# Altium schematic symbol library Vorbereitung.schlib: 30 symbols
Pins are listed as number, name and electrical type; pins without a type are passive.

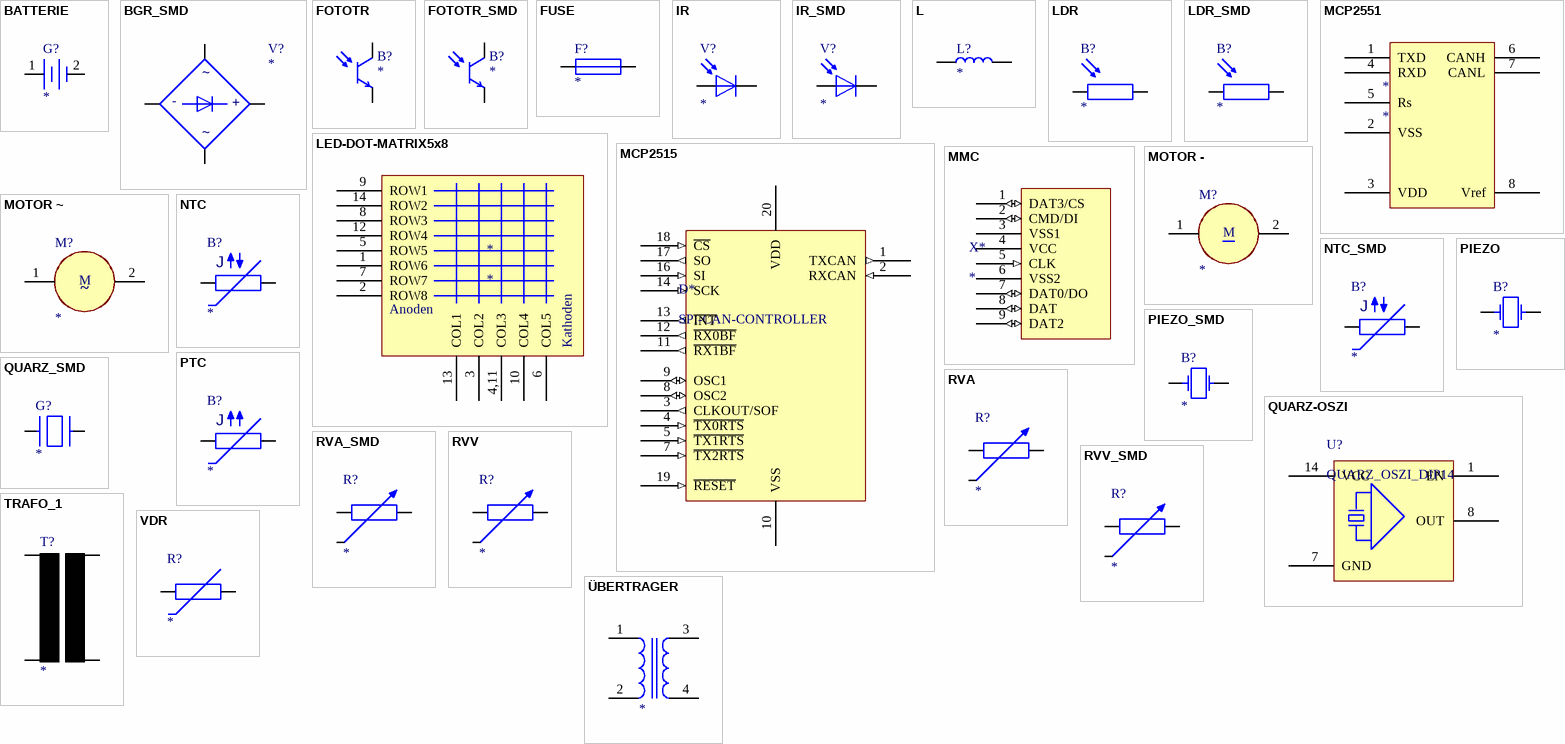
[diagram p0: symbols BATTERIE to ÜBERTRAGER]

## BATTERIE
designator G?
Batterie/Akku
pins: 1 +, 2 -

## BGR_SMD
designator V?
Brückengleichrichter in SMD-Bauform
pins: 1 ~, 2 +, 3 ~, 4 -

## FOTOTR
designator B?
Fototransistor
pins: C, E

## FOTOTR_SMD
designator B?
Fototransistor in SMD-Bauform
footprint 1206
footprint 0805
footprint MELF
pins: C, E

## FUSE
designator F?
pins: 1, 2

## IR
designator V?
Fotodiode
footprint V5
footprint V7.5
footprint V10
footprint V12.5
pins: 1 A, 2 K

## IR_SMD
designator V?
Fotodiode in SMD-Bauform
footprint V_S5
footprint V_S7.5
footprint V_S10
footprint V_S12.5
pins: 1 A, 2 K

## L
designator L?
pins: 1, 2

## LDR
designator B?
Fotowiderstand
footprint R7.5
footprint R10
footprint R12.5
pins: 1, 2

## LDR_SMD
designator B?
Fotowiderstand in SMD-Bauform
footprint R7.5
footprint R10
footprint R12.5
pins: 1, 2

## LED-DOT-MATRIX5x8
designator *
pins: 1 ROW6, 2 ROW8, 3 COL2, 4,11 COL3, 5 ROW5, 6 COL5, 7 ROW7, 8 ROW3, 9 ROW1, 10 COL4, 12 ROW4, 13 COL1, 14 ROW2
text: Anoden; Kathoden

## MCP2515
designator D*, comment SPI-CAN-CONTROLLER
pins: 1 TXCAN (out), 2 RXCAN (in), 3 CLKOUT/SOF (out), 4 ~{TX0RTS} (in), 5 ~{TX1RTS} (in), 7 ~{TX2RTS} (in), 8 OSC2 (io), 9 OSC1 (io), 10 VSS (power), 11 ~{RX1BF} (out), 12 ~{RX0BF} (out), 13 ~{INT} (out), 14 SCK (in), 16 SI (in), 17 SO (out), 18 ~{CS} (in), 19 ~{RESET} (in), 20 VDD (power)

## MCP2551
designator *
pins: 1 TXD, 2 VSS, 3 VDD, 4 RXD, 5 Rs, 6 CANH, 7 CANL, 8 Vref

## MMC
designator X*
pins: 1 DAT3/CS (io), 2 CMD/DI (io), 3 VSS1 (power), 4 VCC (power), 5 CLK (in), 6 VSS2 (power), 7 DAT0/DO (io), 8 DAT (io), 9 DAT2 (io)

## MOTOR -
designator M?
Gleichstrom Motor
footprint SVP
pins: 1 +, 2 -
text: M

## MOTOR ~
designator M?
pins: 1 ~, 2 ~
text: M

## NTC
designator B?
Heißleiter
footprint R7.5
footprint R10
footprint R12.5
pins: 1, 2
text: J

## NTC_SMD
designator B?
Heißleiter in SMD-Bauform
footprint 1206
footprint 0805
footprint MELF
footprint MMELF
pins: 1, 2
text: J

## PIEZO
designator B?
pins: 1, 2

## PIEZO_SMD
designator B?
footprint 1206
footprint 0805
pins: 1, 2

## PTC
designator B?
Kaltleiter
footprint R7.5
footprint R10
footprint R12.5
pins: 1, 2
text: J

## QUARZ-OSZI
designator U?, comment QUARZ_OSZI_DIP14
Quarz oscilator
pins: 1 EN, 7 GND, 8 OUT, 14 VCC

## QUARZ_SMD
designator G?
footprint Quarz_SMD
pins: 1, 2

## RVA
designator R?
Widerstand veränderbar Axial
footprint RVA7.5
footprint RVA10
footprint RVA12.5
pins: 1, 2, 3

## RVA_SMD
designator R?
Widerstand veränderbar Axial in SMD-Bauform
footprint RVA_S 7.5
footprint RVA_S 10
footprint RVA_S12.5
pins: 1, 2, 3

## RVV
designator R?
Widerstand veränderbar Vertikal
footprint RVV7.5
footprint RVV10
footprint RVV12.5
pins: 1, 2, 3

## RVV_SMD
designator R?
Widerstand veränderbar Vertikal in SMD-Bauform
footprint RVV_S 7.5
footprint RVV_S 10
footprint RVV_S 12.5
pins: 1, 2, 3

## TRAFO_1
designator T?
footprint T1
footprint T2
footprint T3
footprint T4
pins: 1 Primär, 2 Primär, 3 Sekundär, 4 Sekundär

## VDR
designator R?
Varistor
footprint R7.5
footprint R10
footprint R12.5
pins: 1, 2

## ÜBERTRAGER
designator ?
pins: 1, 2, 3, 4